# Altium footprint library inductor-neosid.PCBLIB: 99 footprints (part 6 of 7)
Each footprint in its own frame and in the unit in brackets; x right, y up, seen from the top. Pads: shape width x height; smd on the part's side, far side on the other; paste and mask are expansions set on the pad; w line width, h text height; cw(c..) or ccw(c..) is an arc to the next point about the centre after c.
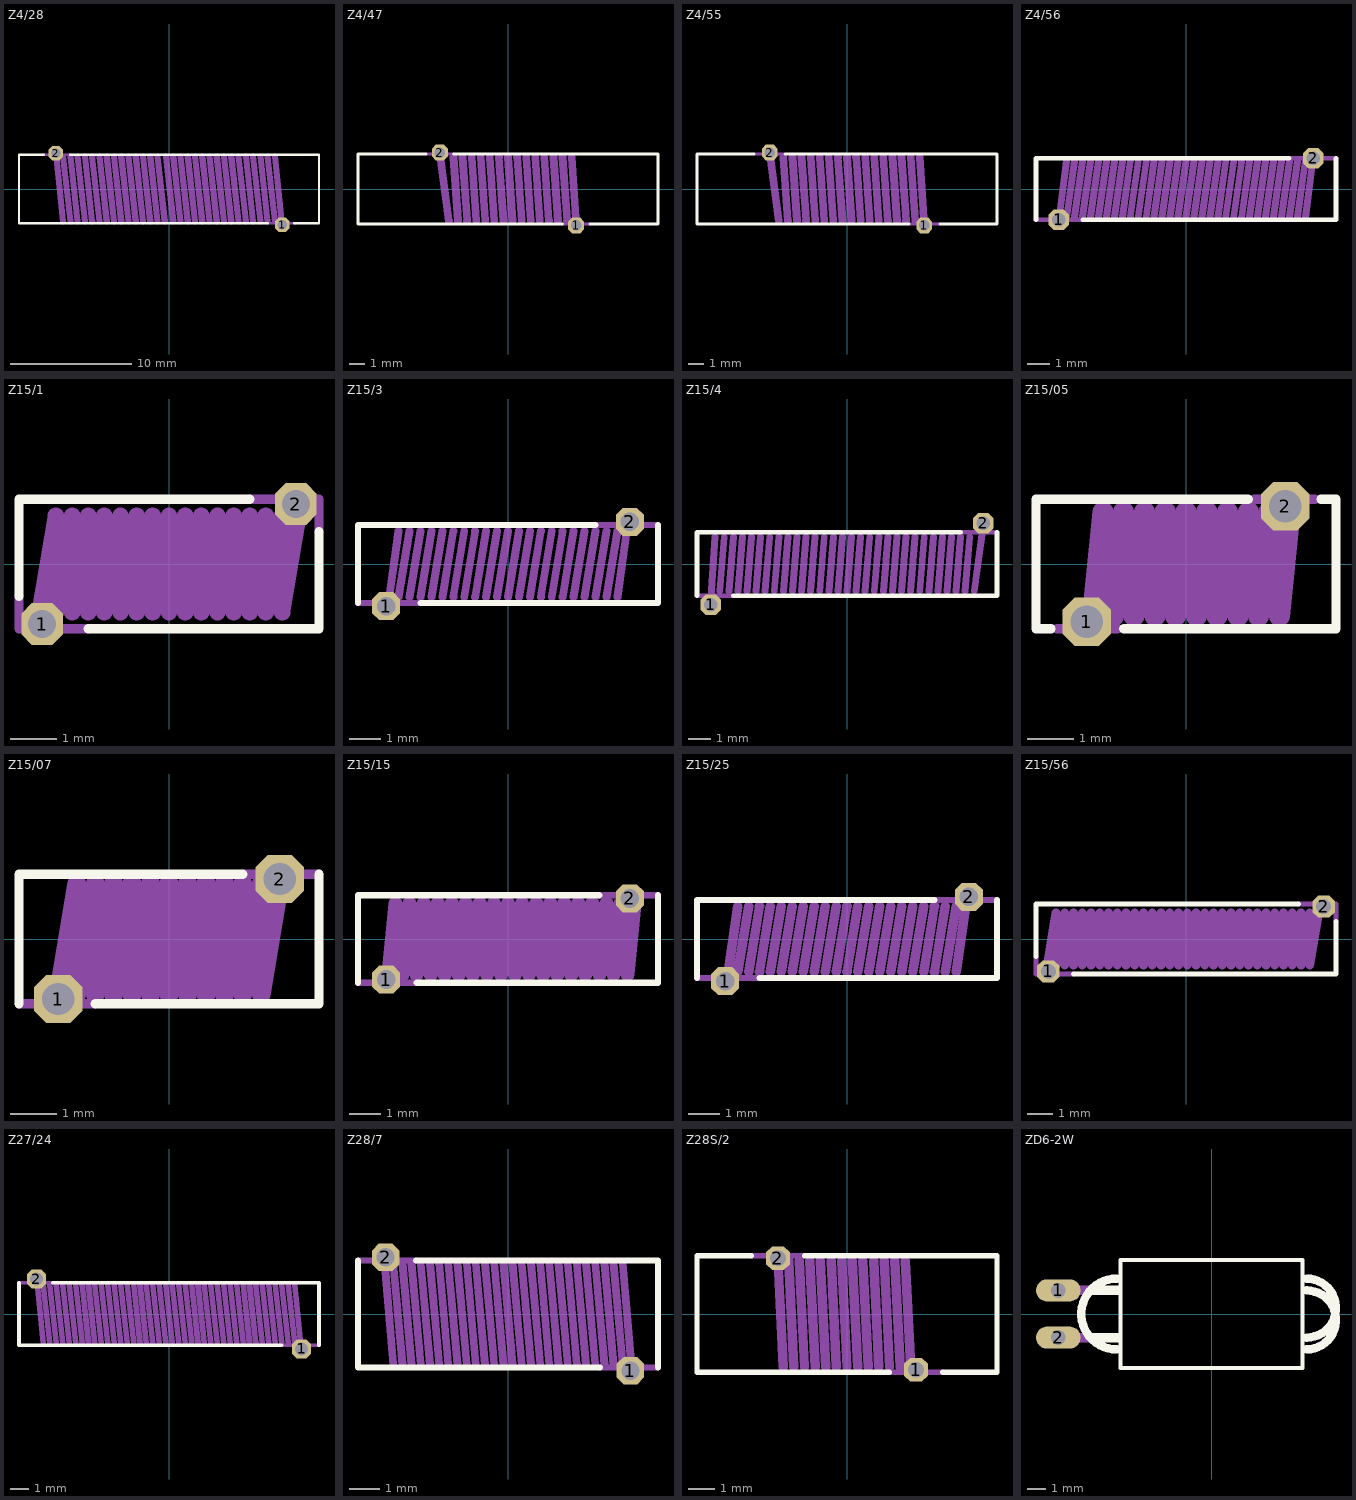
[diagram p5: the footprints below, top view; thin cyan lines are the x and y axes]

## Z4/28 [mm]
pads (2):
  oct 1.2x1.2 hole 0.8: 1(9.35,-2.95) 2(-9.35,2.95)
Top Overlay:
  lines w0.203: -10.35,2.85 -12.4,2.85 -12.4,-2.85 8.15,-2.85 ; -8.15,2.85 12.4,2.85 12.4,-2.85 10.35,-2.85
Mechanical 16:
  lines w0.203: -10.5,2.85 -8.15,2.85 ; 8.15,-2.85 10.5,-2.85
  lines w0.508: -9.35,3 -8.75,-2.7 ; -8.75,2.7 -8.15,-2.7 ; -8.15,2.7 -7.55,-2.7 ; -7.55,2.7 -6.95,-2.7 ; -6.95,2.7 -6.35,-2.7 ; -6.35,2.7 -5.75,-2.7 ; -5.75,2.7 -5.15,-2.7 ; -5.15,2.7 -4.55,-2.7 ; -4.55,2.7 -3.95,-2.7 ; -3.95,2.7 -3.35,-2.7 ; -3.35,2.7 -2.75,-2.7 ; -2.75,2.7 -2.15,-2.7 ; -2.15,2.7 -1.55,-2.7 ; -1.55,2.7 -0.95,-2.7 ; -0.95,2.7 -0.35,-2.7 ; -0.25,2.7 0.35,-2.7 ; 0.35,2.7 0.95,-2.7 ; 0.95,2.7 1.55,-2.7 ; 1.55,2.7 2.15,-2.7 ; 2.15,2.7 2.75,-2.7 ; 2.75,2.7 3.35,-2.7 ; 3.35,2.7 3.95,-2.7 ; 3.95,2.7 4.55,-2.7 ; 4.55,2.7 5.15,-2.7 ; 5.15,2.7 5.75,-2.7 ; 5.75,2.7 6.35,-2.7 ; 6.35,2.7 6.95,-2.7 ; 6.95,2.7 7.55,-2.7 ; 7.55,2.7 8.15,-2.7 ; 8.15,2.7 8.75,-2.7 ; 8.75,2.7 9.35,-3

## Z4/47 [mm]
pads (2):
  oct 1.05x1.05 hole 0.7: 1(4.5,-2.4) 2(-4.5,2.4)
Top Overlay:
  lines w0.203: -5.4,2.3 -9.9,2.3 -9.9,-2.3 3.6,-2.3 ; -3.6,2.3 9.9,2.3 9.9,-2.3 5.4,-2.3
Mechanical 16:
  lines w0.203: -5.4,2.3 -3.6,2.3 ; 3.6,-2.3 5.4,-2.3
  lines w0.508: -4.5,2.4 -3.9,-2.1 ; -3.6,2.1 -3.3,-2.1 ; -3,2.1 -2.7,-2.1 ; -2.4,2.1 -2.1,-2.1 ; -1.8,2.1 -1.5,-2.1 ; -1.2,2.1 -0.9,-2.1 ; -0.6,2.1 -0.3,-2.1 ; 0,2.1 0.3,-2.1 ; 0.6,2.1 0.9,-2.1 ; 1.2,2.1 1.5,-2.1 ; 1.8,2.1 2.1,-2.1 ; 2.4,2.1 2.7,-2.1 ; 3,2.1 3.3,-2.1 ; 3.6,2.1 3.9,-2.1 ; 4.2,2.1 4.5,-2.4

## Z4/55 [mm]
pads (2):
  oct 1.05x1.05 hole 0.7: 1(5.1,-2.4) 2(-5.1,2.4)
Top Overlay:
  lines w0.203: -6.15,2.3 -9.9,2.3 -9.9,-2.3 4.1,-2.3 ; -4.1,2.3 9.9,2.3 9.9,-2.3 6.15,-2.3
Mechanical 16:
  lines w0.203: -6.15,2.3 -4.15,2.3 ; 4.15,-2.3 6.15,-2.3
  lines w0.508: -5.1,2.4 -4.5,-2.1 ; -4.2,2.1 -3.9,-2.1 ; -3.6,2.1 -3.3,-2.1 ; -3,2.1 -2.7,-2.1 ; -2.4,2.1 -2.1,-2.1 ; -1.8,2.1 -1.5,-2.1 ; -1.2,2.1 -0.9,-2.1 ; -0.6,2.1 -0.3,-2.1 ; 0,2.1 0.3,-2.1 ; 0.6,2.1 0.9,-2.1 ; 1.2,2.1 1.5,-2.1 ; 1.8,2.1 2.1,-2.1 ; 2.4,2.1 2.7,-2.1 ; 3,2.1 3.3,-2.1 ; 3.6,2.1 3.9,-2.1 ; 4.2,2.1 4.5,-2.1 ; 4.8,2.1 5.1,-2.4

## Z4/56 [mm]
pads (2):
  oct 0.9x0.9 hole 0.6: 1(-5.6,-1.35) 2(5.6,1.35)
Top Overlay:
  lines w0.203: -6.6,-1.35 -6.6,1.35 4.55,1.35 ; -4.55,-1.35 6.6,-1.35 6.6,1.35
Mechanical 16:
  lines w0.203: -6.6,-1.35 -4.55,-1.35 ; 4.55,1.35 6.6,1.35
  lines w0.305: -5.6,-1.4 -5.25,1.225 ; -5.25,-1.225 -4.9,1.225 ; -4.9,-1.225 -4.55,1.225 ; -4.55,-1.225 -4.2,1.225 ; -4.2,-1.225 -3.85,1.225 ; -3.85,-1.225 -3.5,1.225 ; -3.5,-1.225 -3.15,1.225 ; -3.15,-1.225 -2.8,1.225 ; -2.8,-1.225 -2.45,1.225 ; -2.45,-1.225 -2.1,1.225 ; -2.1,-1.225 -1.75,1.225 ; -1.75,-1.225 -1.4,1.225 ; -1.4,-1.225 -1.05,1.225 ; -1.05,-1.225 -0.7,1.225 ; -0.7,-1.225 -0.35,1.225 ; -0.35,-1.225 0,1.225 ; 0,-1.225 0.35,1.225 ; 0.35,-1.225 0.7,1.225 ; 0.7,-1.225 1.05,1.225 ; 1.05,-1.225 1.4,1.225 ; 1.4,-1.225 1.75,1.225 ; 1.75,-1.225 2.1,1.225 ; 2.1,-1.225 2.45,1.225 ; 2.45,-1.225 2.8,1.225 ; 2.8,-1.225 3.15,1.225 ; 3.15,-1.225 3.5,1.225 ; 3.5,-1.225 3.85,1.225 ; 3.85,-1.225 4.2,1.225 ; 4.2,-1.225 4.55,1.225 ; 4.55,-1.225 4.9,1.225 ; 4.9,-1.225 5.25,1.225 ; 5.25,-1.225 5.6,1.4

## Z15/1 [mm]
pads (2):
  oct 0.9x0.9 hole 0.6: 1(-2.75,-1.3) 2(2.75,1.3)
Top Overlay:
  lines w0.203: -3.25,-0.7 -3.25,1.4 1.75,1.4 ; -1.75,-1.4 3.25,-1.4 3.25,0.7
Mechanical 16:
  lines w0.203: -3.25,-0.7 -3.25,-1.4 -1.75,-1.4 ; 1.75,1.4 3.25,1.4 3.25,0.7
  lines w0.356: -2.8,-1.05 -2.45,1.05 ; -2.45,-1.05 -2.1,1.05 ; -2.1,-1.05 -1.75,1.05 ; -1.75,-1.05 -1.4,1.05 ; -1.4,-1.05 -1.05,1.05 ; -1.05,-1.05 -0.7,1.05 ; -0.7,-1.05 -0.35,1.05 ; -0.35,-1.05 0,1.05 ; 0,-1.05 0.35,1.05 ; 0.35,-1.05 0.7,1.05 ; 0.7,-1.05 1.05,1.05 ; 1.05,-1.05 1.4,1.05 ; 1.4,-1.05 1.75,1.05 ; 1.75,-1.05 2.1,1.05 ; 2.1,-1.05 2.45,1.05 ; 2.45,-1.05 2.8,1.05

## Z15/3 [mm]
pads (2):
  oct 0.9x0.9 hole 0.6: 1(-3.9,-1.35) 2(3.9,1.35)
Top Overlay:
  lines w0.203: -4.8,-1.25 -4.8,1.25 2.8,1.25 ; -2.8,-1.25 4.8,-1.25 4.8,1.25
Mechanical 16:
  lines w0.203: -4.8,-1.25 -2.8,-1.25 ; 2.8,1.25 4.8,1.25
  lines w0.254: -3.85,-1.4 -3.5,1.05 ; -3.5,-1.05 -3.15,1.05 ; -3.15,-1.05 -2.8,1.05 ; -2.8,-1.05 -2.45,1.05 ; -2.45,-1.05 -2.1,1.05 ; -2.1,-1.05 -1.75,1.05 ; -1.75,-1.05 -1.4,1.05 ; -1.4,-1.05 -1.05,1.05 ; -1.05,-1.05 -0.7,1.05 ; -0.7,-1.05 -0.35,1.05 ; -0.35,-1.05 0,1.05 ; 0,-1.05 0.35,1.05 ; 0.35,-1.05 0.7,1.05 ; 0.7,-1.05 1.05,1.05 ; 1.05,-1.05 1.4,1.05 ; 1.4,-1.05 1.75,1.05 ; 1.75,-1.05 2.1,1.05 ; 2.1,-1.05 2.45,1.05 ; 2.45,-1.05 2.8,1.05 ; 2.8,-1.05 3.15,1.05 ; 3.15,-1.05 3.5,1.05 ; 3.5,-1.05 3.85,1.4

## Z15/4 [mm]
pads (2):
  oct 0.9x0.9 hole 0.6: 1(-6,-1.8) 2(6,1.8)
Top Overlay:
  lines w0.203: -6.6,-1.4 -6.6,1.4 5,1.4 ; -5,-1.4 6.6,-1.4 6.6,1.4
Mechanical 16:
  lines w0.203: -6.6,-1.4 -5,-1.4 ; 5,1.4 6.6,1.4
  lines w0.305: -6,-1.8 -5.8,1.2 ; -5.6,-1.2 -5.4,1.2 ; -5.2,-1.2 -5,1.2 ; -4.8,-1.2 -4.6,1.2 ; -4.4,-1.2 -4.2,1.2 ; -4,-1.2 -3.8,1.2 ; -3.6,-1.2 -3.4,1.2 ; -3.2,-1.2 -3,1.2 ; -2.8,-1.2 -2.6,1.2 ; -2.4,-1.2 -2.2,1.2 ; -2,-1.2 -1.8,1.2 ; -1.6,-1.2 -1.4,1.2 ; -1.2,-1.2 -1,1.2 ; -0.8,-1.2 -0.6,1.2 ; -0.4,-1.2 -0.2,1.2 ; 0,-1.2 0.2,1.2 ; 0.4,-1.2 0.6,1.2 ; 0.8,-1.2 1,1.2 ; 1.2,-1.2 1.4,1.2 ; 1.6,-1.2 1.8,1.2 ; 2,-1.2 2.2,1.2 ; 2.4,-1.2 2.6,1.2 ; 2.8,-1.2 3,1.2 ; 3.2,-1.2 3.4,1.2 ; 3.6,-1.2 3.8,1.2 ; 4,-1.2 4.2,1.2 ; 4.4,-1.2 4.6,1.2 ; 4.8,-1.2 5,1.2 ; 5.2,-1.2 5.4,1.2 ; 5.6,-1.2 6,1.8

## Z15/05 [mm]
pads (2):
  oct 1.05x1.05 hole 0.7: 1(-2.15,-1.25) 2(2.15,1.25)
Top Overlay:
  lines w0.203: -2.925,-1.4 -3.25,-1.4 -3.25,1.4 1.35,1.4 ; -1.35,-1.4 3.25,-1.4 3.25,1.4 2.925,1.4
Mechanical 16:
  lines w0.203: -2.8,-1.4 -1.475,-1.4 ; 1.475,1.4 2.8,1.4
  lines w0.457: -2.025,-1.125 -1.8,1.125 ; -1.575,-1.125 -1.35,1.125 ; -1.125,-1.125 -0.9,1.125 ; -0.675,-1.125 -0.45,1.125 ; -0.225,-1.125 0,1.125 ; 0.225,-1.125 0.45,1.125 ; 0.675,-1.125 0.9,1.125 ; 1.125,-1.125 1.35,1.125 ; 1.575,-1.125 1.8,1.125 ; 2.025,-1.125 2.25,1.125

## Z15/07 [mm]
pads (2):
  oct 1.05x1.05 hole 0.7: 1(-2.4,-1.3) 2(2.4,1.3)
Top Overlay:
  lines w0.203: -3.25,-1.4 -3.25,1.4 1.6,1.4 ; -1.6,-1.4 3.25,-1.4 3.25,1.4
Mechanical 16:
  lines w0.203: -3.25,-1.4 -1.6,-1.4 ; 1.6,1.4 3.25,1.4
  lines w0.406: -2.4,-1.2 -2,1.2 ; -2,-1.2 -1.6,1.2 ; -1.6,-1.2 -1.2,1.2 ; -1.2,-1.2 -0.8,1.2 ; -0.8,-1.2 -0.4,1.2 ; -0.4,-1.2 0,1.2 ; 0,-1.2 0.4,1.2 ; 0.4,-1.2 0.8,1.2 ; 0.8,-1.2 1.2,1.2 ; 1.2,-1.2 1.6,1.2 ; 1.6,-1.2 2,1.2 ; 2,-1.2 2.4,1.2

## Z15/15 [mm]
pads (2):
  oct 0.9x0.9 hole 0.6: 1(-3.9,-1.3) 2(3.9,1.3)
Top Overlay:
  lines w0.203: -4.8,-1.4 -4.8,1.4 2.925,1.4 ; -2.925,-1.4 4.8,-1.4 4.8,1.4
Mechanical 16:
  lines w0.203: -4.8,-1.4 -2.925,-1.4 ; 2.925,1.4 4.8,1.4
  lines w0.457: -3.825,-1.125 -3.6,1.125 ; -3.375,-1.125 -3.15,1.125 ; -2.925,-1.125 -2.7,1.125 ; -2.475,-1.125 -2.25,1.125 ; -2.025,-1.125 -1.8,1.125 ; -1.575,-1.125 -1.35,1.125 ; -1.125,-1.125 -0.9,1.125 ; -0.675,-1.125 -0.45,1.125 ; -0.225,-1.125 0,1.125 ; 0.225,-1.125 0.45,1.125 ; 0.675,-1.125 0.9,1.125 ; 1.125,-1.125 1.35,1.125 ; 1.575,-1.125 1.8,1.125 ; 2.025,-1.125 2.25,1.125 ; 2.475,-1.125 2.7,1.125 ; 2.925,-1.125 3.15,1.125 ; 3.375,-1.125 3.6,1.125 ; 3.825,-1.125 4.05,1.125

## Z15/25 [mm]
pads (2):
  oct 0.9x0.9 hole 0.6: 1(-3.9,-1.35) 2(3.9,1.35)
Top Overlay:
  lines w0.203: -4.8,-1.25 -4.8,1.25 2.8,1.25 ; -2.8,-1.25 4.8,-1.25 4.8,1.25
Mechanical 16:
  lines w0.203: -4.8,-1.25 -2.8,-1.25 ; 2.8,1.25 4.8,1.25
  lines w0.305: -3.85,-1.4 -3.5,1.05 ; -3.5,-1.05 -3.15,1.05 ; -3.15,-1.05 -2.8,1.05 ; -2.8,-1.05 -2.45,1.05 ; -2.45,-1.05 -2.1,1.05 ; -2.1,-1.05 -1.75,1.05 ; -1.75,-1.05 -1.4,1.05 ; -1.4,-1.05 -1.05,1.05 ; -1.05,-1.05 -0.7,1.05 ; -0.7,-1.05 -0.35,1.05 ; -0.35,-1.05 0,1.05 ; 0,-1.05 0.35,1.05 ; 0.35,-1.05 0.7,1.05 ; 0.7,-1.05 1.05,1.05 ; 1.05,-1.05 1.4,1.05 ; 1.4,-1.05 1.75,1.05 ; 1.75,-1.05 2.1,1.05 ; 2.1,-1.05 2.45,1.05 ; 2.45,-1.05 2.8,1.05 ; 2.8,-1.05 3.15,1.05 ; 3.15,-1.05 3.5,1.05 ; 3.5,-1.05 3.85,1.4

## Z15/56 [mm]
pads (2):
  oct 0.9x0.9 hole 0.6: 1(-5.5,-1.3) 2(5.5,1.3)
Top Overlay:
  lines w0.203: -6,-0.7 -6,1.4 4.5,1.4 ; -4.5,-1.4 6,-1.4 6,0.7
Mechanical 16:
  lines w0.203: -6,-0.7 -6,-1.4 -4.5,-1.4 ; 4.5,1.4 6,1.4 6,0.7
  lines w0.356: -5.55,-1.05 -5.2,1.05 ; -5.2,-1.05 -4.85,1.05 ; -4.85,-1.05 -4.5,1.05 ; -4.5,-1.05 -4.15,1.05 ; -4.15,-1.05 -3.8,1.05 ; -3.8,-1.05 -3.45,1.05 ; -3.45,-1.05 -3.1,1.05 ; -3.1,-1.05 -2.75,1.05 ; -2.75,-1.05 -2.4,1.05 ; -2.4,-1.05 -2.05,1.05 ; -2.05,-1.05 -1.7,1.05 ; -1.7,-1.05 -1.35,1.05 ; -1.35,-1.05 -1,1.05 ; -1,-1.05 -0.65,1.05 ; -0.65,-1.05 -0.3,1.05 ; -0.3,-1.05 0.05,1.05 ; 0.05,-1.05 0.4,1.05 ; 0.4,-1.05 0.75,1.05 ; 0.75,-1.05 1.1,1.05 ; 1.1,-1.05 1.45,1.05 ; 1.45,-1.05 1.8,1.05 ; 1.8,-1.05 2.15,1.05 ; 2.15,-1.05 2.5,1.05 ; 2.5,-1.05 2.85,1.05 ; 2.85,-1.05 3.2,1.05 ; 3.2,-1.05 3.55,1.05 ; 3.55,-1.05 3.9,1.05 ; 3.9,-1.05 4.25,1.05 ; 4.25,-1.05 4.6,1.05 ; 4.6,-1.05 4.95,1.05 ; 4.95,-1.05 5.3,1.05

## Z27/24 [mm]
pads (2):
  oct 1.05x1.05 hole 0.7: 1(7.2,-1.9) 2(-7.2,1.9)
Top Overlay:
  lines w0.203: -8.15,1.7 -8.15,-1.7 6.125,-1.7 ; -6.3,1.7 8.15,1.7 8.15,-1.7
Mechanical 16:
  lines w0.203: -8.15,1.7 -6.3,1.7 ; 6.125,-1.7 8.15,-1.7
  lines w0.305: -7.175,1.925 -6.825,-1.575 ; -6.825,1.575 -6.475,-1.575 ; -6.475,1.575 -6.125,-1.575 ; -6.125,1.575 -5.775,-1.575 ; -5.775,1.575 -5.425,-1.575 ; -5.425,1.575 -5.075,-1.575 ; -5.075,1.575 -4.725,-1.575 ; -4.725,1.575 -4.375,-1.575 ; -4.375,1.575 -4.025,-1.575 ; -4.025,1.575 -3.675,-1.575 ; -3.675,1.575 -3.325,-1.575 ; -3.325,1.575 -2.975,-1.575 ; -2.975,1.575 -2.625,-1.575 ; -2.625,1.575 -2.275,-1.575 ; -2.275,1.575 -1.925,-1.575 ; -1.925,1.575 -1.575,-1.575 ; -1.575,1.575 -1.225,-1.575 ; -1.225,1.575 -0.875,-1.575 ; -0.875,1.575 -0.525,-1.575 ; -0.525,1.575 -0.175,-1.575 ; -0.175,1.575 0.175,-1.575 ; 0.175,1.575 0.525,-1.575 ; 0.525,1.575 0.875,-1.575 ; 0.875,1.575 1.225,-1.575 ; 1.225,1.575 1.575,-1.575 ; 1.575,1.575 1.925,-1.575 ; 1.925,1.575 2.275,-1.575 ; 2.275,1.575 2.625,-1.575 ; 2.625,1.575 2.975,-1.575 ; 2.975,1.575 3.325,-1.575 ; 3.325,1.575 3.675,-1.575 ; 3.675,1.575 4.025,-1.575 ; 4.025,1.575 4.375,-1.575 ; 4.375,1.575 4.725,-1.575 ; 4.725,1.575 5.075,-1.575 ; 5.075,1.575 5.425,-1.575 ; 5.425,1.575 5.775,-1.575 ; 5.775,1.575 6.125,-1.575 ; 6.125,1.575 6.475,-1.575 ; 6.475,1.575 6.825,-1.575 ; 6.825,1.575 7.175,-1.925

## Z28/7 [mm]
pads (2):
  oct 0.9x0.9 hole 0.6: 1(4,-1.85) 2(-4,1.85)
Top Overlay:
  lines w0.203: -4.9,1.75 -4.9,-1.75 3,-1.75 ; -3,1.75 4.9,1.75 4.9,-1.75
Mechanical 16:
  lines w0.203: -4.9,1.75 -3,1.75 ; 3,-1.75 4.9,-1.75
  lines w0.254: -4.05,1.95 -3.75,-1.65 ; -3.75,1.65 -3.45,-1.65 ; -3.45,1.65 -3.15,-1.65 ; -3.15,1.65 -2.85,-1.65 ; -2.85,1.65 -2.55,-1.65 ; -2.55,1.65 -2.25,-1.65 ; -2.25,1.65 -1.95,-1.65 ; -1.95,1.65 -1.65,-1.65 ; -1.65,1.65 -1.35,-1.65 ; -1.35,1.65 -1.05,-1.65 ; -1.05,1.65 -0.75,-1.65 ; -0.75,1.65 -0.45,-1.65 ; -0.45,1.65 -0.15,-1.65 ; -0.15,1.65 0.15,-1.65 ; 0.15,1.65 0.45,-1.65 ; 0.45,1.65 0.75,-1.65 ; 0.75,1.65 1.05,-1.65 ; 1.05,1.65 1.35,-1.65 ; 1.35,1.65 1.65,-1.65 ; 1.65,1.65 1.95,-1.65 ; 1.95,1.65 2.25,-1.65 ; 2.25,1.65 2.55,-1.65 ; 2.55,1.65 2.85,-1.65 ; 2.85,1.65 3.15,-1.65 ; 3.15,1.65 3.45,-1.65 ; 3.45,1.65 3.75,-1.65 ; 3.75,1.65 4.05,-1.95

## Z28S/2 [mm]
pads (2):
  oct 0.9x0.9 hole 0.6: 1(2.6,-2.1) 2(-2.6,2.1)
Top Overlay:
  lines w0.203: -3.6,2.2 -5.65,2.2 -5.65,-2.2 1.6,-2.2 ; -1.6,2.2 5.65,2.2 5.65,-2.2 3.6,-2.2
Mechanical 16:
  lines w0.203: -3.6,2.2 -1.6,2.2 ; 1.6,-2.2 3.6,-2.2
  lines w0.356: -2.6,2 -2.4,-2 ; -2.2,2 -2,-2 ; -1.8,2 -1.6,-2 ; -1.4,2 -1.2,-2 ; -1,2 -0.8,-2 ; -0.6,2 -0.4,-2 ; -0.2,2 0,-2 ; 0.2,2 0.4,-2 ; 0.6,2 0.8,-2 ; 1,2 1.2,-2 ; 1.4,2 1.6,-2 ; 1.8,2 2,-2 ; 2.2,2 2.4,-2

## ZD6-2W [mil]
pads (2):
  oval 94.5x47.25 hole 31.5: 1(-325,50) 2(-325,-50)
Top Overlay:
  lines w8: -192.91,-114.17 192.91,-114.17 192.91,114.17 -192.91,114.17 -192.91,-114.17
  lines w18: -201.13,-75 cw(c-201.13,0) -201.13,75 ; 201.13,-75 ccw(c201.13,-12.5) 201.13,50 ; 201.13,-50 ccw(c201.13,12.5) 201.13,75
  lines w20: -250,-50 -200,-50 ; -250,50 -200,50
Mechanical 16:
  lines w20: -325,-50 -250,-50 ; -325,50 -250,50